# EAGLE library part WE-RJ45_74990111211 (library 74980104400_Eagle_WE-RJ45_rev19b)
WE-RJ45 LAN Transformer Characteristics RJ45 Connector with integrated transformer / common mode choke Power over Ethernet up to 50 Watt and speeds up to 10 Gbit/s Available in SMD, THT and THT with USB Compliant with standards: IEEE 802.3u, IEEE 802.3ab, IEEE 802.3af, IEEE 802.3at, IEEE 802.3an and upcoming IEE 802.3bt Applications Suitable for industrial temperatures from –40 °C up to +85 °C Compatible to Industrial Ethernet systems like EtherCAT or Profinet Compliant with most IC’s for Ethernet applications such as Microchip, Texas Instruments, Broadcom, Linear Technology Hubs, Routers, Switches, IP cameras, IoT applications <https://katalog.we-online.com/media/images/v2/o35731v209%20Family_WE-RJ45-LAN.jpg> Details see: https://katalog.we-online.com/en/pbs/WE-LAN-RJ45 Updated by Ella Wu 2019-08-05 2019 (C) Wurth Elektronik
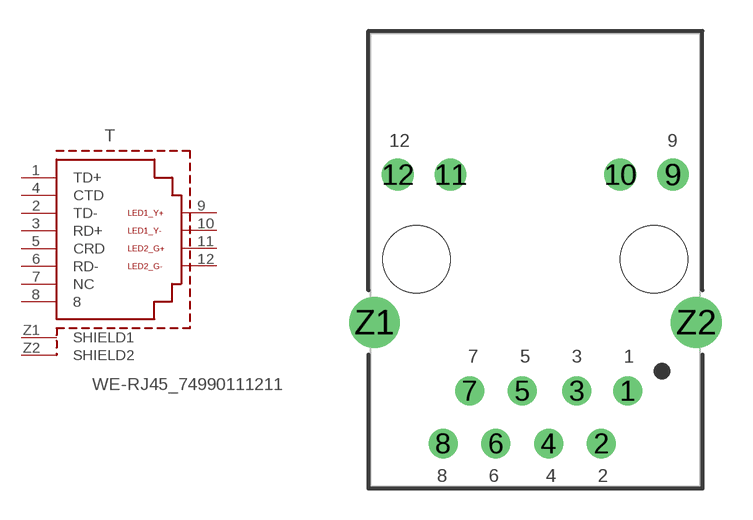
[diagram p26: symbol with the pads of 74990111211; footprint 74990111211]

Designator prefix T

## WE-RJ45_74990111211 (DATA-RATE: 10/100 Base-T; DATASHEET-URL: https://katalog.we-online.com/pbs/datasheet/74990111211.pdf; LED: yellow-green; MOUNT: THT; PART-NUMBER: 74990111211; POE: non-PoE; PORTS: 1; USB: No)  [74990111211]
1  TD+
2  TD-
3  RD+
4  CTD
5  CRD
6  RD-
7  NC  pas
8  8
9  LED1_Y+
10  LED1_Y-
11  LED2_G+
12  LED2_G-
Z1  SHIELD1  pwr
Z2  SHIELD2  pwr

## Footprint 74990111211 (pad centres in mm)
WE-RJ45 LAN Transformer 10/100 Base-T
drill 0.89: 1 4.45,-6.35; 2 3.18,-8.89; 3 2,-6.35; 4 0.64,-8.89; 5 -0.63,-6.35; 6 -1.9,-8.89; 7 -3.17,-6.35; 8 -4.44,-8.89
drill 1.02: 9 6.625,4.08; 10 4.085,4.08; 11 -4.085,4.08; 12 -6.625,4.08
drill 1.63: Z1 -7.745,-3.05; Z2 7.745,-3.05
hole 3.25 at -5.715,0
hole 3.25 at 5.715,0